# Altium schematic symbol library GMSB0532112YEU.SchLib: 1 symbol
Pins are listed as number, name and electrical type; pins without a type are passive.

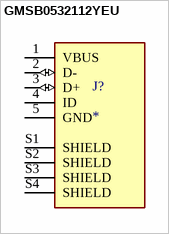
[diagram p0: symbol GMSB0532112YEU]

## GMSB0532112YEU
designator J?
Mini USB 2.0 Type B Receptacle, Right Angle SMT, Shell Nickel Plating, With Mylar, 30Î¼in Gold, Tape and Reel Packaging; MF: Amphenol ICC (Commercial Products); MP: GMSB0532112YEU; Package: None; Check_prices: https://www.snapeda.com/parts/GMSB0532112YEU/Amphenol/view-part/?ref=eda; Value: *; Price: None; Purchase-URL: https://pricing.snapeda.com/search/part/GMSB0532112YEU/?ref=eda; Availability: In Stock; SnapEDA_Link: https://www.snapeda.com/parts/GMSB0532112YEU/Amphenol/view-part/?ref=snap
footprint AMPHENOL_GMSB0532112YEU
pins: 1 VBUS (power), 2 D- (io), 3 D+ (io), 4 ID, 5 GND (power), S1 SHIELD, S2 SHIELD, S3 SHIELD, S4 SHIELD